# EAGLE library part PIC24F16KA101-X_ (library microchip)
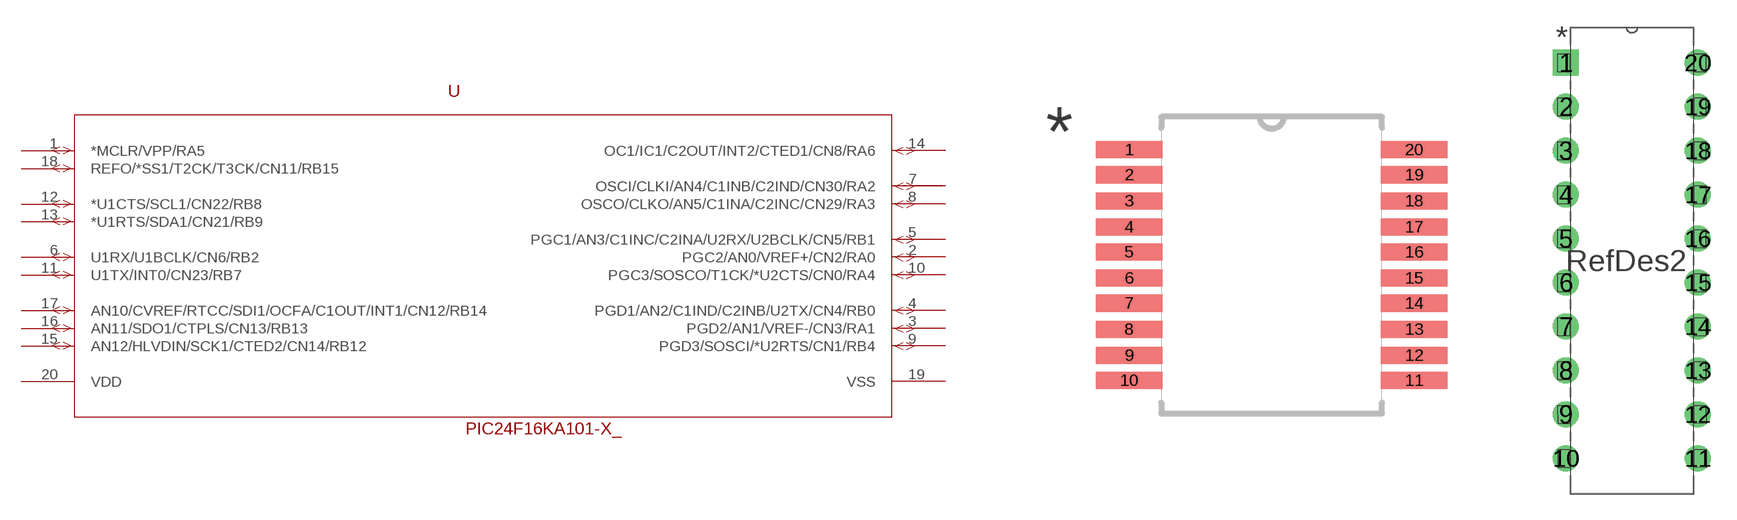
[diagram p143: symbol with the pads of SSOP20_MC; footprints SSOP20_MC, PDIP20_300MC]

Designator prefix -

## PIC24F16KA101-X_  [SSOP20_MC]
1  *MCLR/VPP/RA5  pas
2  PGC2/AN0/VREF+/CN2/RA0  pas
3  PGD2/AN1/VREF-/CN3/RA1  pas
4  PGD1/AN2/C1IND/C2INB/U2TX/CN4/RB0  pas
5  PGC1/AN3/C1INC/C2INA/U2RX/U2BCLK/CN5/RB1  pas
6  U1RX/U1BCLK/CN6/RB2  pas
7  OSCI/CLKI/AN4/C1INB/C2IND/CN30/RA2  pas
8  OSCO/CLKO/AN5/C1INA/C2INC/CN29/RA3  pas
9  PGD3/SOSCI/*U2RTS/CN1/RB4  pas
10  PGC3/SOSCO/T1CK/*U2CTS/CN0/RA4  pas
11  U1TX/INT0/CN23/RB7  pas
12  *U1CTS/SCL1/CN22/RB8  pas
13  *U1RTS/SDA1/CN21/RB9  pas
14  OC1/IC1/C2OUT/INT2/CTED1/CN8/RA6  pas
15  AN12/HLVDIN/SCK1/CTED2/CN14/RB12  pas
16  AN11/SDO1/CTPLS/CN13/RB13  pas
17  AN10/CVREF/RTCC/SDI1/OCFA/C1OUT/INT1/CN12/RB14  pas
18  REFO/*SS1/T2CK/T3CK/CN11/RB15  pas
19  VSS  pas
20  VDD  pas

## PIC24F16KA101-X_PDIP  [PDIP20_300MC]
Pads as for SSOP20_MC

## Footprint SSOP20_MC (pad centres in mm)
smd 1.676 x 0.432: 1 -3.607,2.921; 2 -3.607,2.286; 3 -3.607,1.626; 4 -3.607,0.965; 5 -3.607,0.33; 6 -3.607,-0.33; 7 -3.607,-0.965; 8 -3.607,-1.626; 9 -3.607,-2.286; 10 -3.607,-2.921; 11 3.607,-2.921; 12 3.607,-2.286; 13 3.607,-1.626; 14 3.607,-0.965; 15 3.607,-0.33; 16 3.607,0.33; 17 3.607,0.965; 18 3.607,1.626; 19 3.607,2.286; 20 3.607,2.921

## Footprint PDIP20_300MC (pad centres in mm)
drill 0.991 square: 1 -7.62,22.86
drill 0.991: 2 -7.62,20.32; 3 -7.62,17.78; 4 -7.62,15.24; 5 -7.62,12.7; 6 -7.62,10.16; 7 -7.62,7.62; 8 -7.62,5.08; 9 -7.62,2.54; 10 -7.62,0; 11 0,0; 12 0,2.54; 13 0,5.08; 14 0,7.62; 15 0,10.16; 16 0,12.7; 17 0,15.24; 18 0,17.78; 19 0,20.32; 20 0,22.86